# EAGLE library part C8051F537A (library wheat)
Microcontroller, C8051f537A, TSSOP20
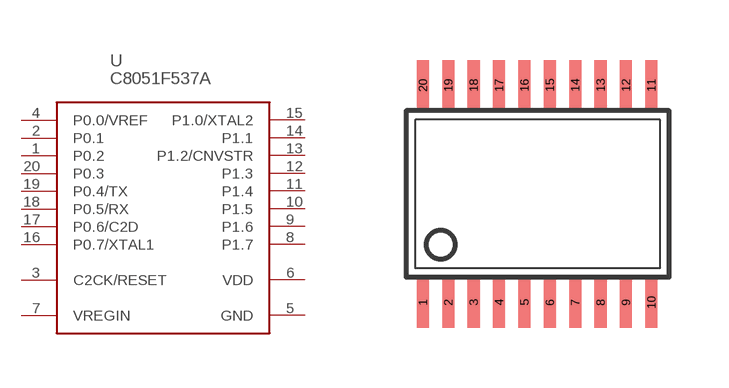
[diagram p102: symbol with the pads of TSSOP20; footprint TSSOP20]

Designator prefix U

## C8051F537A-IT  [TSSOP20]
1  P0.2
2  P0.1
3  C2CK/RESET
4  P0.0/VREF
5  GND  pwr
6  VDD  pwr
7  VREGIN  pwr
8  P1.7
9  P1.6
10  P1.5
11  P1.4
12  P1.3
13  P1.2/CNVSTR
14  P1.1
15  P1.0/XTAL2
16  P0.7/XTAL1
17  P0.6/C2D
18  P0.5/RX
19  P0.4/TX
20  P0.3

## Footprint TSSOP20 (pad centres in mm)
TSSOP 20pin 0.65mm
smd 0.305 x 1.27: 1 -2.857,-2.718; 2 -2.223,-2.718; 3 -1.587,-2.718; 4 -0.953,-2.718; 5 -0.318,-2.718; 6 0.318,-2.718; 7 0.953,-2.718; 8 1.587,-2.718; 9 2.223,-2.718; 10 2.857,-2.718; 11 2.857,2.718; 12 2.223,2.718; 13 1.587,2.718; 14 0.953,2.718; 15 0.318,2.718; 16 -0.318,2.718; 17 -0.953,2.718; 18 -1.587,2.718; 19 -2.223,2.718; 20 -2.857,2.718